# EAGLE library part RJ11 (library Connectors)
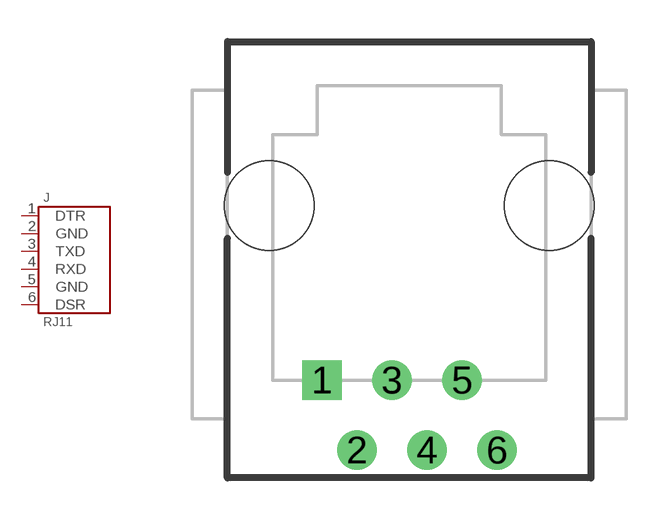
[diagram p19: symbol with the pads of RJ11-VERT; footprint RJ11-VERT]

Designator prefix J

## RJ11-VERT  [RJ11-VERT]
1  DTR
2  GND
3  TXD
4  RXD
5  GND
6  DSR

## Footprint RJ11-VERT (pad centres in mm)
drill 0.8 pad 1.422 square: 1 -3.17,-6.35
drill 0.8 pad 1.422: 2 -1.9,-8.89; 3 -0.63,-6.35; 4 0.64,-8.89; 5 1.91,-6.35; 6 3.18,-8.89
hole 3.25 at 5.08,0
hole 3.25 at -5.08,0